# Altium schematic symbol library WE-MAPI_3012.SchLib: 12 symbols
Pins are listed as number, name and electrical type; pins without a type are passive.

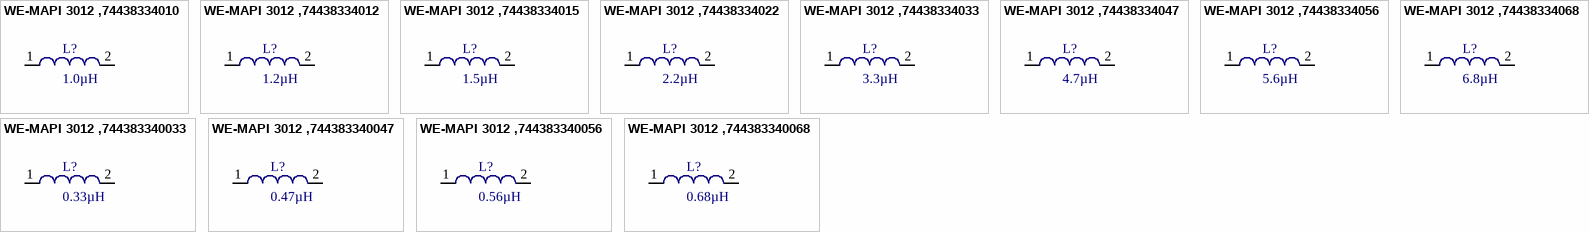
[diagram p0: symbols WE-MAPI 3012 ,74438334010 to WE-MAPI 3012 ,744383340068]

## WE-MAPI 3012 ,74438334010
designator L?, comment 1.0µH
Power Multilayer Inductor WE-MAPI, L=1.0µH; partNo: 74438334010; Manufacturer: Würth Elektronik eiSos GmbH; Inductance: 1.0µH; ComponentLink1Description: Manufacturer; ComponentLink1URL: http://www.we-online.de; Created by: Otto Christin; Created Date: Nov 2013; ComponentLink2Description: Datasheet; ComponentLink2URL: http://katalog.we-online.de/kataloge/eisos/media/pdf/74438334010.pdf
footprint SMD 3012 (Chip Inductor, 2-Leads, Body 3.0x3.0mm, IPC Medium Density)
pins: 1, 2

## WE-MAPI 3012 ,74438334012
designator L?, comment 1.2µH
Power Multilayer Inductor WE-MAPI, L=1.2µH; partNo: 74438334012; Manufacturer: Würth Elektronik eiSos GmbH; Inductance: 1.2µH; ComponentLink1Description: Manufacturer; ComponentLink1URL: http://www.we-online.de; Created by: Otto Christin; Created Date: Nov 2013; ComponentLink2Description: Datasheet; ComponentLink2URL: http://katalog.we-online.de/kataloge/eisos/media/pdf/74438334012.pdf
footprint SMD 3012 (Chip Inductor, 2-Leads, Body 3.0x3.0mm, IPC Medium Density)
pins: 1, 2

## WE-MAPI 3012 ,74438334015
designator L?, comment 1.5µH
Power Multilayer Inductor WE-MAPI, L=1.5µH; partNo: 74438334015; Manufacturer: Würth Elektronik eiSos GmbH; Inductance: 1.5µH; ComponentLink1Description: Manufacturer; ComponentLink1URL: http://www.we-online.de; Created by: Otto Christin; Created Date: Nov 2013; ComponentLink2Description: Datasheet; ComponentLink2URL: http://katalog.we-online.de/kataloge/eisos/media/pdf/74438334015.pdf
footprint SMD 3012 (Chip Inductor, 2-Leads, Body 3.0x3.0mm, IPC Medium Density)
pins: 1, 2

## WE-MAPI 3012 ,74438334022
designator L?, comment 2.2µH
Power Multilayer Inductor WE-MAPI, L=2.2µH; partNo: 74438334022; Manufacturer: Würth Elektronik eiSos GmbH; Inductance: 2.2µH; ComponentLink1Description: Manufacturer; ComponentLink1URL: http://www.we-online.de; Created by: Otto Christin; Created Date: Nov 2013; ComponentLink2Description: Datasheet; ComponentLink2URL: http://katalog.we-online.de/kataloge/eisos/media/pdf/74438334022.pdf
footprint SMD 3012 (Chip Inductor, 2-Leads, Body 3.0x3.0mm, IPC Medium Density)
pins: 1, 2

## WE-MAPI 3012 ,74438334033
designator L?, comment 3.3µH
Power Multilayer Inductor WE-MAPI, L=3.3µH; partNo: 74438334033; Manufacturer: Würth Elektronik eiSos GmbH; Inductance: 3.3µH; ComponentLink1Description: Manufacturer; ComponentLink1URL: http://www.we-online.de; Created by: Otto Christin; Created Date: Nov 2013; ComponentLink2Description: Datasheet; ComponentLink2URL: http://katalog.we-online.de/kataloge/eisos/media/pdf/74438334033.pdf
footprint SMD 3012 (Chip Inductor, 2-Leads, Body 3.0x3.0mm, IPC Medium Density)
pins: 1, 2

## WE-MAPI 3012 ,74438334047
designator L?, comment 4.7µH
Power Multilayer Inductor WE-MAPI, L=4.7µH; partNo: 74438334047; Manufacturer: Würth Elektronik eiSos GmbH; Inductance: 4.7µH; ComponentLink1Description: Manufacturer; ComponentLink1URL: http://www.we-online.de; Created by: Otto Christin; Created Date: Nov 2013; ComponentLink2Description: Datasheet; ComponentLink2URL: http://katalog.we-online.de/kataloge/eisos/media/pdf/74438334047.pdf
footprint SMD 3012 (Chip Inductor, 2-Leads, Body 3.0x3.0mm, IPC Medium Density)
pins: 1, 2

## WE-MAPI 3012 ,74438334056
designator L?, comment 5.6µH
Power Multilayer Inductor WE-MAPI, L=5.6µH; partNo: 74438334056; Manufacturer: Würth Elektronik eiSos GmbH; Inductance: 5.6µH; ComponentLink1Description: Manufacturer; ComponentLink1URL: http://www.we-online.de; Created by: Otto Christin; Created Date: Nov 2013; ComponentLink2Description: Datasheet; ComponentLink2URL: http://katalog.we-online.de/kataloge/eisos/media/pdf/74438334056.pdf
footprint SMD 3012 (Chip Inductor, 2-Leads, Body 3.0x3.0mm, IPC Medium Density)
pins: 1, 2

## WE-MAPI 3012 ,74438334068
designator L?, comment 6.8µH
Power Multilayer Inductor WE-MAPI, L=6.8µH; partNo: 74438334068; Manufacturer: Würth Elektronik eiSos GmbH; Inductance: 6.8µH; ComponentLink1Description: Manufacturer; ComponentLink1URL: http://www.we-online.de; Created by: Otto Christin; Created Date: Nov 2013; ComponentLink2Description: Datasheet; ComponentLink2URL: http://katalog.we-online.de/kataloge/eisos/media/pdf/74438334068.pdf
footprint SMD 3012 (Chip Inductor, 2-Leads, Body 3.0x3.0mm, IPC Medium Density)
pins: 1, 2

## WE-MAPI 3012 ,744383340033
designator L?, comment 0.33µH
Power Multilayer Inductor WE-MAPI, L=0.33µH; partNo: 744383340033; Manufacturer: Würth Elektronik eiSos GmbH; Inductance: 0.33µH; ComponentLink1Description: Manufacturer; ComponentLink1URL: http://www.we-online.de; Created by: Otto Christin; Created Date: Nov 2013; ComponentLink2Description: Datasheet; ComponentLink2URL: http://katalog.we-online.de/kataloge/eisos/media/pdf/744383340033.pdf
footprint SMD 3012 (Chip Inductor, 2-Leads, Body 3.0x3.0mm, IPC Medium Density)
pins: 1, 2

## WE-MAPI 3012 ,744383340047
designator L?, comment 0.47µH
Power Multilayer Inductor WE-MAPI, L=0.47µH; partNo: 744383340047; Manufacturer: Würth Elektronik eiSos GmbH; Inductance: 0.47µH; ComponentLink1Description: Manufacturer; ComponentLink1URL: http://www.we-online.de; Created by: Otto Christin; Created Date: Nov 2013; ComponentLink2Description: Datasheet; ComponentLink2URL: http://katalog.we-online.de/kataloge/eisos/media/pdf/744383340047.pdf
footprint SMD 3012 (Chip Inductor, 2-Leads, Body 3.0x3.0mm, IPC Medium Density)
pins: 1, 2

## WE-MAPI 3012 ,744383340056
designator L?, comment 0.56µH
Power Multilayer Inductor WE-MAPI, L=0.56µH; partNo: 744383340056; Manufacturer: Würth Elektronik eiSos GmbH; Inductance: 0.56µH; ComponentLink1Description: Manufacturer; ComponentLink1URL: http://www.we-online.de; Created by: Otto Christin; Created Date: Nov 2013; ComponentLink2Description: Datasheet; ComponentLink2URL: http://katalog.we-online.de/kataloge/eisos/media/pdf/744383340056.pdf
footprint SMD 3012 (Chip Inductor, 2-Leads, Body 3.0x3.0mm, IPC Medium Density)
pins: 1, 2

## WE-MAPI 3012 ,744383340068
designator L?, comment 0.68µH
Power Multilayer Inductor WE-MAPI, L=0.68µH; partNo: 744383340068; Manufacturer: Würth Elektronik eiSos GmbH; Inductance: 0.68µH; ComponentLink1Description: Manufacturer; ComponentLink1URL: http://www.we-online.de; Created by: Otto Christin; Created Date: Nov 2013; ComponentLink2Description: Datasheet; ComponentLink2URL: http://katalog.we-online.de/kataloge/eisos/media/pdf/744383340068.pdf
footprint SMD 3012 (Chip Inductor, 2-Leads, Body 3.0x3.0mm, IPC Medium Density)
pins: 1, 2